# Altium schematic symbol library 4-794618-6.SchLib: 1 symbol
Pins are listed as number, name and electrical type; pins without a type are passive.

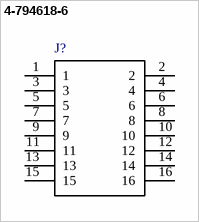
[diagram p0: symbol 4-794618-6]

## 4-794618-6
designator J?  (value not drawn)
Wire-To-Board Connector, Right Angle, Micro Mate-N-Lok Series, Through Hole, Header, 16, 3 Mm; MF: TE Connectivity; MP: 4-794618-6; TE_purchase_URL: https://www.te.com/usa-en/product-4-794618-6.html?te_bu=Cor&te_type=disp&te_campaign=seda_glo_cor-seda-global-disp-prtnr-fy19-seda-model-bom-cta_sma-317_1&elqCampaignId=32493; Availability: Unavailable; Package: None; Price: None; SnapEDA_Link: https://www.snapeda.com/parts/4-794618-6/TE%20Connectivity%20AMP%20Connectors/view-part/?ref=snap; Value: *
footprint *TE_4-794618-6
pins: 1, 2, 3, 4, 5, 6, 7, 8, 9, 10, 11, 12, 13, 14, 15, 16